# EAGLE library part ACS713 (library allegro)
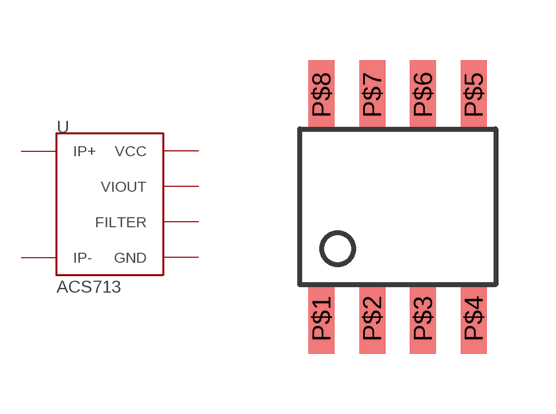
[diagram p2: symbol with the pads of ACS713-SOIC; footprint ACS713-SOIC]

Designator prefix -

## ACS713SOIC  [ACS713-SOIC]
P$1  IP+
P$2  IP+
P$3  IP-
P$4  IP-
P$5  GND
P$6  FILTER
P$7  VIOUT
P$8  VCC

## Footprint ACS713-SOIC (pad centres in mm)
smd 0.65 x 1.75: P$1 -1.905,-2.8; P$2 -0.635,-2.8; P$3 0.635,-2.8; P$4 1.905,-2.8; P$5 1.905,2.8; P$6 0.635,2.8; P$7 -0.635,2.8; P$8 -1.905,2.8